# EAGLE library part NCJ10FI (library con-neutrik_xlr_2)
NCJ10FI Combination - 3 pin Female XLR (with switch) - 3 pin 1/4" switched socket Combo I series Without or without retention latch Source: www.neutrik.com/
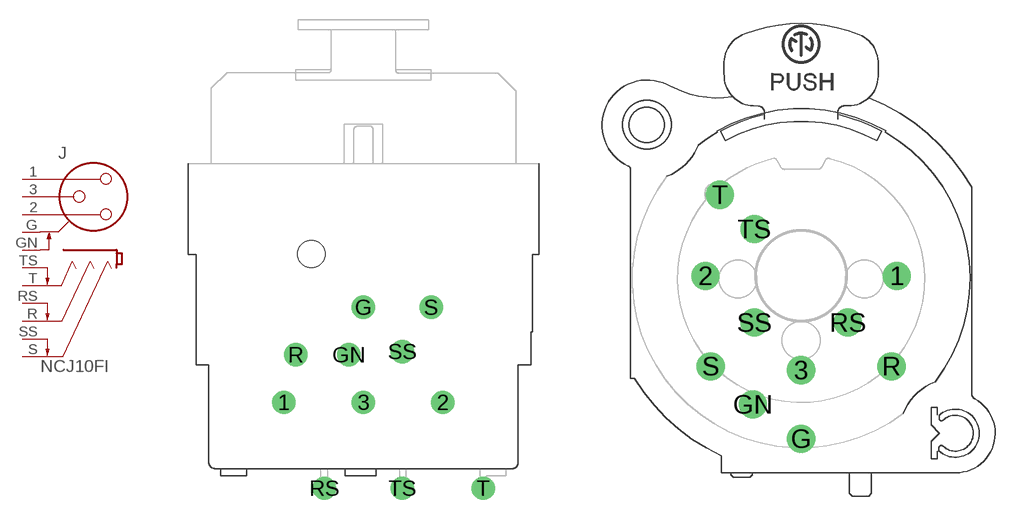
[diagram p0: symbol with the pads of NCJ10FI-H; footprints NCJ10FI-H, NCJ10FI-V]

Designator prefix J

## NCJ10FI-H  [NCJ10FI-H]
1  1  pas
2  2  pas
3  3  pas
G  G  pas
GN  GN  pas
R  R  pas
RS  RS  pas
S  S  pas
SS  SS  pas
T  T  pas
TS  TS  pas

## NCJ10FI-V  [NCJ10FI-V]
Pads as for NCJ10FI-H

## NCJ10FI-H-0  [NCJ10FI-H]
Pads as for NCJ10FI-H

## NCJ10FI-V-0  [NCJ10FI-V]
Pads as for NCJ10FI-H

## Footprint NCJ10FI-H (pad centres in mm)
NCJ10FI-H Combo I Series XLR/3 Pole Jack switched - Ground switch to Connector case - 3 pole 1/4" all switched Horizontal orientation (with or without retention latch) Source: www.neutrik.com
drill 1.2: 1 -6.1,-18.4; 2 6.1,-18.4; 3 0,-18.4; G 0,-11.1; GN -1.1,-14.75; R -5.2,-14.75; RS -3,-25; S 5.2,-11.1; SS 3,-14.5; T 9.2,-25; TS 3,-25
hole 2.1 at -4,-7

## Footprint NCJ10FI-V (pad centres in mm)
NCJ10FI-V Combo I Series XLR/3 Pole Jack switched - Ground switch to Connector case - 3 pole 1/4" all switched Vertical orientation (with or without retention latch) Source: www.neutrik.com
drill 1.2: 1 6.15,0; 2 -6.15,0; 3 0,-6.05; G 0,-10.45; GN -3.1,-8.25; R 5.8,-5.8; RS 3,-3; S -5.8,-5.8; SS -3,-3; T -5.2,5.2; TS -3,3